# Altium integrated library Passive.IntLib: 31 symbols
Pins are listed as number, name and electrical type; pins without a type are passive.

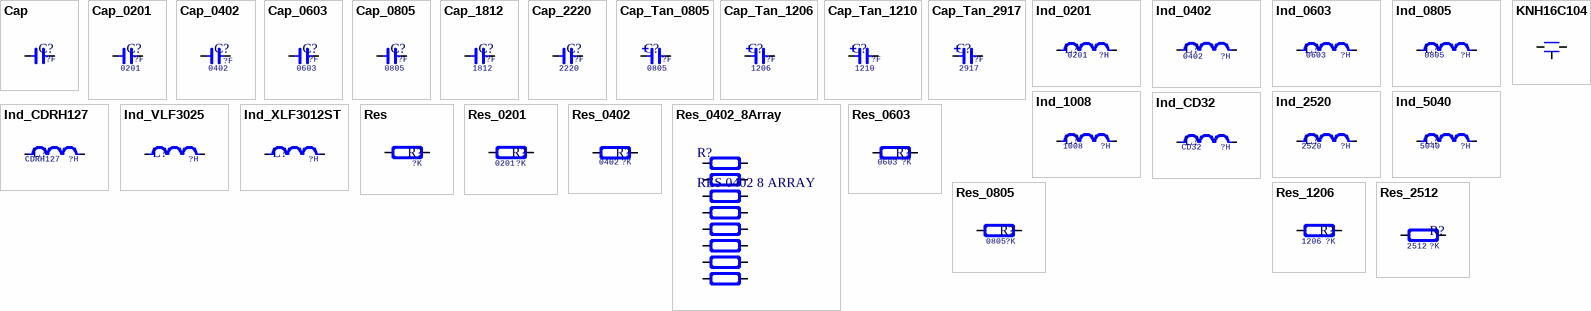
[diagram p0: symbols Cap to Res_2512]

## Cap
designator C?  value ?F
Capacitor; Specification: X7R 50V; Manufacturer: *
footprint CAP_12*20_Orange
footprint CAP_12*20_Black
footprint CAP_25*30
footprint CAP_11*30
pins: 1, 2

## Cap_0201
designator C?, comment value ?F  Type: 0201  (hidden comment: C0201)
Capacitor; Specification: X7R 50V; Manufacturer: *
footprint CAP_0201
pins: 1, 2

## Cap_0402
designator C?, comment value ?F  Type: 0402  (hidden comment: C0402)
Capacitor; Specification: X7R 50V; Manufacturer: *
footprint CAP_0402
pins: 1, 2

## Cap_0603
designator C?, comment value ?F  Type: 0603  (hidden comment: C0603)
Capacitor; Specification: X7R 50V; Manufacturer: *
footprint CAP_0603
pins: 1, 2

## Cap_0805
designator C?, comment value ?F  Type: 0805  (hidden comment: C0805)
Capacitor; Specification: X7R 50V; Manufacturer: *
footprint CAP_0805
pins: 1, 2

## Cap_1812
designator C?, comment value ?F  Type: 1812  (hidden comment: C0805)
Capacitor; Specification: X7R 50V; Manufacturer: *
footprint CAP_1812
pins: 1, 2

## Cap_2220
designator C?, comment value ?F  Type: 2220  (hidden comment: C2220)
Capacitor; Specification: X7R 50V; Manufacturer: *
footprint CAP_2220
pins: 1, 2

## Cap_Tan_0805
designator C?, comment value ?F  Type: 0805  (hidden comment: C0805)
Capacitor Tantalum; Specification: X5R 10V; Manufacturer: *
footprint CAP_TAN_P0805
pins: 1, 2
1 alternate drawing of the same symbol

## Cap_Tan_1206
designator C?, comment value ?F  Type: 1206  (hidden comment: C1206)
Capacitor Tantalum; Specification: X5R 10V; Manufacturer: *
footprint CAP_TAN_A1206
footprint CAP_1206
pins: 1, 2
1 alternate drawing of the same symbol

## Cap_Tan_1210
designator C?, comment value ?F  Type: 1210  (hidden comment: C1210)
Capacitor Tantalum; Specification: X5R 10V; Manufacturer: *
footprint CAP_TAN_B1210
pins: 1, 2
1 alternate drawing of the same symbol

## Cap_Tan_2917
designator C?, comment value ?F  Type: 2917  (hidden comment: C2917)
Capacitor Tantalum; Specification: X5R 10V; Manufacturer: *
footprint CAP_TAN_D2917
pins: 1, 2
1 alternate drawing of the same symbol

## Ind_0201
designator L?, comment value ?H  Type: 0201  (hidden comment: H0201)
Inductor; Specification: ±5% 100mA; Manufacturer: *
footprint IND_0201
pins: 1, 2

## Ind_0402
designator L?, comment value ?H  Type: 0402  (hidden comment: H0402)
Inductor; Specification: ±5% 100mA; Manufacturer: *
footprint IND_0402
pins: 1, 2

## Ind_0603
designator L?, comment value ?H  Type: 0603  (hidden comment: H0603)
Inductor; Specification: ±5% 100mA; Manufacturer: *
footprint IND_0603
pins: 1, 2

## Ind_0805
designator L?, comment value ?H  Type: 0805  (hidden comment: H0805)
Inductor; Specification: ±5% 100mA; Manufacturer: *
footprint IND_0805
pins: 1, 2

## Ind_1008
designator L?, comment value ?H  Type: 1008  (hidden comment: H1008)
Inductor; Specification: ±5% 100mA; Manufacturer: *
footprint IND_1008
pins: 1, 2

## Ind_2520
designator L?, comment value ?H  (hidden comment: 2520)
Inductor; Specification: ±5% 100mA; Manufacturer: *; Type: 2520
footprint IND_2520
pins: 1, 2

## Ind_5040
designator L?, comment value ?H  (hidden comment: 5040)
Inductor; Specification: ±5% 100mA; Manufacturer: *; Type: 5040
footprint IND_5040
pins: 1, 2

## Ind_CD32
designator L?, comment value ?H  (hidden comment: CD32)
Inductor; Specification: ±5% 100mA; Manufacturer: *; Type: CD32
footprint IND_CD32
pins: 1, 2

## Ind_CDRH127
designator L?, comment value ?H  (hidden comment: CDRH127)
Inductor; Specification: ±5% 100mA; Manufacturer: *; Type: CDRH127
footprint IND_CDRH127
pins: 1, 2

## Ind_VLF3025
designator L?, comment value ?H  (hidden comment: VLF3025)
Inductor; Specification: ±5% 100mA; Manufacturer: *; Type: VLF3025
footprint IND_VLF3025
pins: 1, 2

## Ind_XLF3012ST
designator L?, comment value ?H  (hidden comment: XLF3012ST)
Inductor 2.2uh; Specification: ±5% 100mA; Manufacturer: *; Type: XLF3012ST
footprint IND_XLF3012ST
footprint IND_XFL4020
pins: 1, 2

## KNH16C104
designator EMI?, comment KNH16C  (value not drawn)
footprint KNH16C104
pins: 1, 2, 3

## Res
designator R?  value ?K
Resistor; Specification: ±5%; Manufacturer: *
footprint RES_4.2*12_Kiwame
pins: 1, 2

## Res_0201
designator R?, comment value ?K  Type: 0201  (hidden comment: R0201)
Resistor; Specification: ±5%; Manufacturer: *
footprint RES_0201
pins: 1, 2

## Res_0402
designator R?, comment value ?K  Type: 0402  (hidden comment: R0402)
Resistor; Specification: ±5%; Manufacturer: *
footprint RES_0402
pins: 1, 2

## Res_0402_8Array
designator R?, comment RES 0402 8 ARRAY
footprint RES_0402_8ARRAY
pins: 1, 2, 3, 4, 5, 6, 7, 8, 9, 10, 11, 12, 13, 14, 15, 16

## Res_0603
designator R?, comment value ?K  Type: 0603  (hidden comment: R0603)
Resistor; Specification: ±5%; Manufacturer: *
footprint RES_0603
pins: 1, 2

## Res_0805
designator R?, comment value ?K  Type: 0805  (hidden comment: R0805)
Resistor; Specification: ±5%; Manufacturer: *
footprint RES_0805
pins: 1, 2

## Res_1206
designator R?, comment value ?K  Type: 1206  (hidden comment: R2512)
Resistor; Specification: ±5%; Manufacturer: *
footprint RES_1206
pins: 1, 2

## Res_2512
designator R?, comment value ?K  Type: 2512  (hidden comment: R2512)
Resistor; Specification: ±5%; Manufacturer: *
footprint RES_2512
footprint RES_2512_3W
pins: 1, 2